# Altium footprint library MyPcblib.PcbLib: 6 footprints
Each footprint in its own frame and in the unit in brackets; x right, y up, seen from the top. Pads: shape width x height; smd on the part's side, far side on the other; paste and mask are expansions set on the pad; w line width, h text height; cw(c..) or ccw(c..) is an arc to the next point about the centre after c.
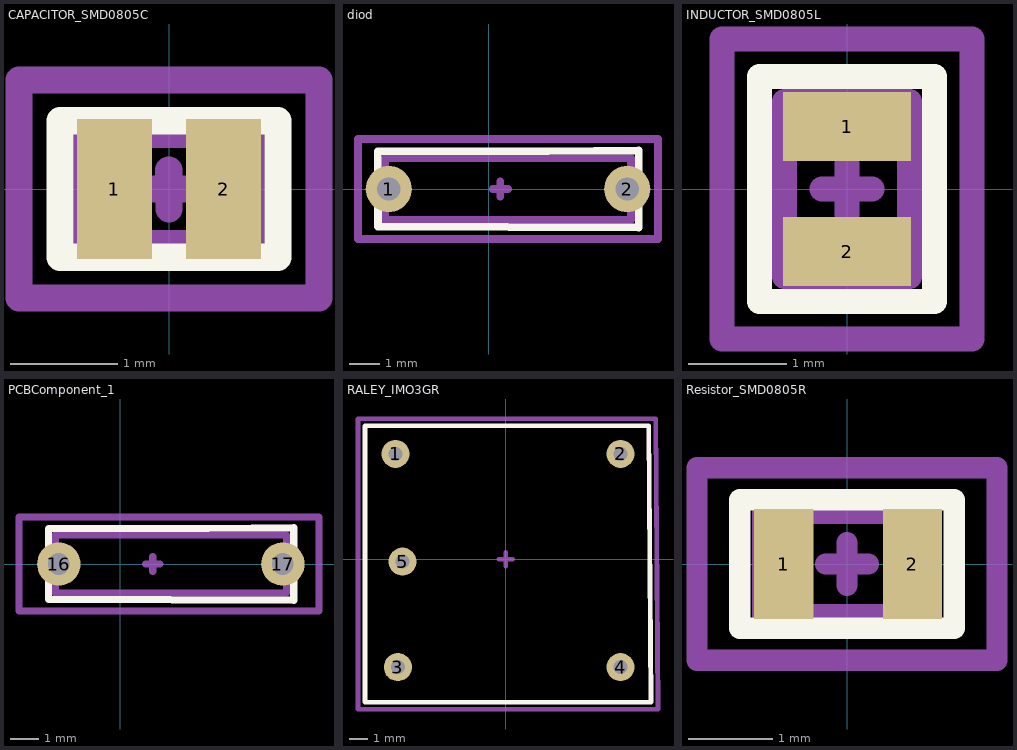
[diagram p0: the footprints below, top view; thin cyan lines are the x and y axes]

## CAPACITOR_SMD0805C [mm]
pads (2):
  rect 0.7x1.3 smd: 1(-0.508,0) 2(0.508,0)
Top Overlay:
  lines w0.254: -1.016,-0.635 1.016,-0.635 1.016,0.635 -1.016,0.635 -1.016,-0.635
3D Model:
  lines w0.254: -0.762,-0.508 0.762,-0.508 0.762,0.508 -0.762,0.508 -0.762,-0.508
Border:
  lines w0.254: -0.127,0 0.127,0 ; -0.002,0.177 0.001,-0.185 ; -1.397,-1.016 1.397,-1.016 1.397,1.016 -1.397,1.016 -1.397,-0.635 -1.397,-1.016
3D body "Конденсатор _ 0805 С.stp": height 1.3, standoff 0, extent -1,-0.625 1,0.625

## diod [mil]
pads (2):
  round 60 hole 30: 1(-130,0) 2(180,0)
Top Overlay:
  lines w10: -144.23,48.68 77.15,49.01 195,50 195,25 195,-25 195,-50 -144.06,-48.65 -144.1,-24.32 -144.19,24.34 -144.23,48.68
Top Assy:
  lines w10: -135,-40 -135,40 185,40 185,-40 -135,-40
Border:
  lines w10: 5,0 25,0 ; 15,-10 15,10 ; -170,-65 -170,-45 -170,65 75,65 220,65 220,32.5 220,-32.5 220,-65 75,-65 -170,-65
3D body "Diod_1N4007.stp": height 206.69, standoff 0, extent -144.3,-49.74 194.19,47.97

## INDUCTOR_SMD0805L [mm]
pads (2):
  rect 1.3x0.7 smd: 1(0,0.635) 2(0,-0.635)
Top Overlay:
  lines w0.254: -0.889,-1.143 -0.889,1.143 0.889,1.143 0.889,-1.143 -0.889,-1.143
Top Assy:
  lines w0.254: -0.635,-0.889 0.635,-0.889 0.635,0.889 -0.635,0.889 -0.635,-0.889
Border:
  lines w0.254: -0.254,0 0.254,0 ; 0,-0.254 0,0.254 ; -1.27,-1.524 -1.27,-1.27 -1.27,1.524 1.27,1.524 1.27,-1.524 -1.27,-1.524
3D body "катушка индуктивности 0805.stp": height 1.63, standoff 0.1, extent -0.865,-1.145 0.865,1.145

## PCBComponent_1 [mil]
pads (2):
  round 60 hole 30: 16(-85,0) 17(225,0)
Top Overlay:
  lines w10: -99.23,48.68 122.15,49.01 240,50 240,25 240,-25 240,-50 -99.06,-48.65 -99.1,-24.32 -99.19,24.34 -99.23,48.68
Top Assy:
  lines w10: -90,-40 -90,40 230,40 230,-40 -90,-40
Border:
  lines w10: 35,0 55,0 ; 45,-10 45,10 ; -140,-65 -140,-45 -140,65 120,65 275,65 275,32.5 275,-32.5 275,-65 120,-65 -140,-65
3D body "Diod_1N4007.stp": height 206.69, standoff 0, extent -99.29,-50 239.29,48.23

## RALEY_IMO3GR [mil]
pads (5):
  round 60 hole 30: 1(-235,225) 2(245,225) 3(-230,-230) 4(245,-230) 5(-220,-5)
Top Overlay:
  lines w10: -300,-305 310,-305 305,285 -300,285 -300,-305
Border:
  lines w10: -15,0 15,0 ; 0,-15 0,15 ; -315,-320 325,-320 320,300 -315,300 -315,-320
3D body "реле _ Реле HJR-3FF-3VDC-S-Z.stp": height 740.16, standoff -11.81, extent -298.15,-300 308.15,290.55

## Resistor_SMD0805R [mm]
pads (2):
  rect 0.7x1.3 smd: 1(-0.75,0) 2(0.774,0)
Top Overlay:
  lines w0.254: -1.27,-0.762 1.27,-0.762 1.27,0.762 -1.27,0.762 -1.27,-0.762
Top Assy:
  lines w0.254: -1,-0.6 1,-0.6 1,0.6 -1,0.6 -1,-0.6
Border:
  lines w0.254: -0.254,0 0.254,0 ; 0,-0.254 0,0.254 ; -1.778,-1.143 -1.778,1.143 1.778,1.143 1.778,-0.508 1.778,-1.143 -1.778,-1.143
3D body "Резистор 1206 _ 1206 SMD.stp": height 0.61, standoff 0, extent -1,-0.6 1,0.6